# Altium footprint library sod523_0.PcbLib: 1 footprints
Each footprint in its own frame and in the unit in brackets; x right, y up, seen from the top. Pads: shape width x height; smd on the part's side, far side on the other; paste and mask are expansions set on the pad; w line width, h text height; cw(c..) or ccw(c..) is an arc to the next point about the centre after c.
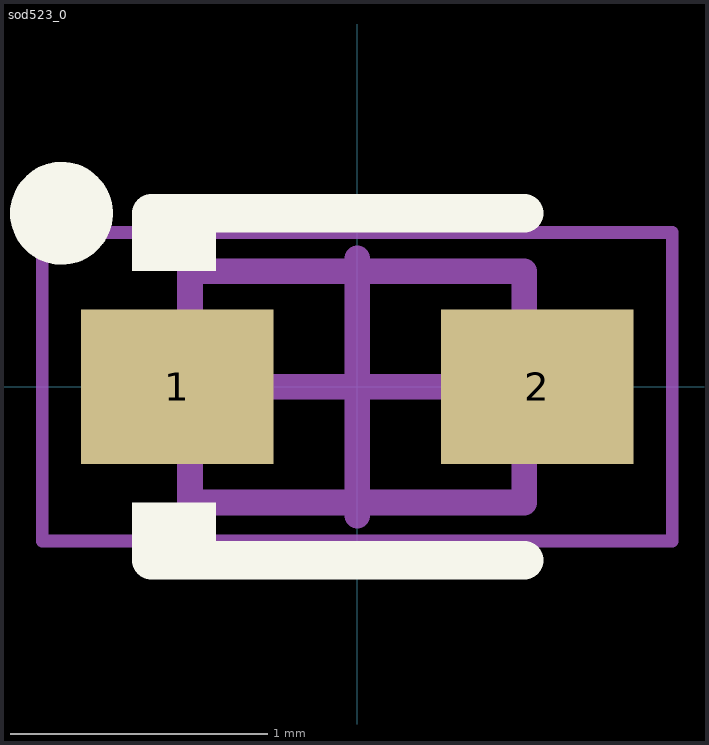
[diagram p0: the footprint, top view; thin cyan lines are the x and y axes]

## sod523_0 [mm] "SOD523, 0.80mm x 1.20mm"
height 0.7
pads (2):
  rect 0.75x0.6 smd: 1(-0.7,0) 2(0.7,0)
Top Overlay:
  circle w0.2: c-1.15,0.675 r0.1
  rectangle: -0.875,0.45 -0.55,0.675
  rectangle: -0.875,-0.675 -0.55,-0.45
  lines w0.15: -0.8,-0.675 0.65,-0.675 ; -0.8,0.675 0.65,0.675
Mechanical 13:
  lines w0.1: -0.65,-0.45 0.65,-0.45 0.65,0.45 -0.65,0.45 -0.65,-0.45
Mechanical 15:
  lines w0.05: -1.225,-0.6 1.225,-0.6 1.225,0.6 -1.225,0.6 -1.225,-0.6
  lines w0.1: -0.5,0 0.5,0 ; 0,-0.5 0,0.5
3D body: height 0.7, standoff 0, extent -0.65,-0.45 0.65,0.45